# Altium footprint library AVX Corporation.PcbLib: 18 footprints (part 1 of 2)
Each footprint in its own frame and in the unit in brackets; x right, y up, seen from the top. Pads: shape width x height; smd on the part's side, far side on the other; paste and mask are expansions set on the pad; w line width, h text height; cw(c..) or ccw(c..) is an arc to the next point about the centre after c.
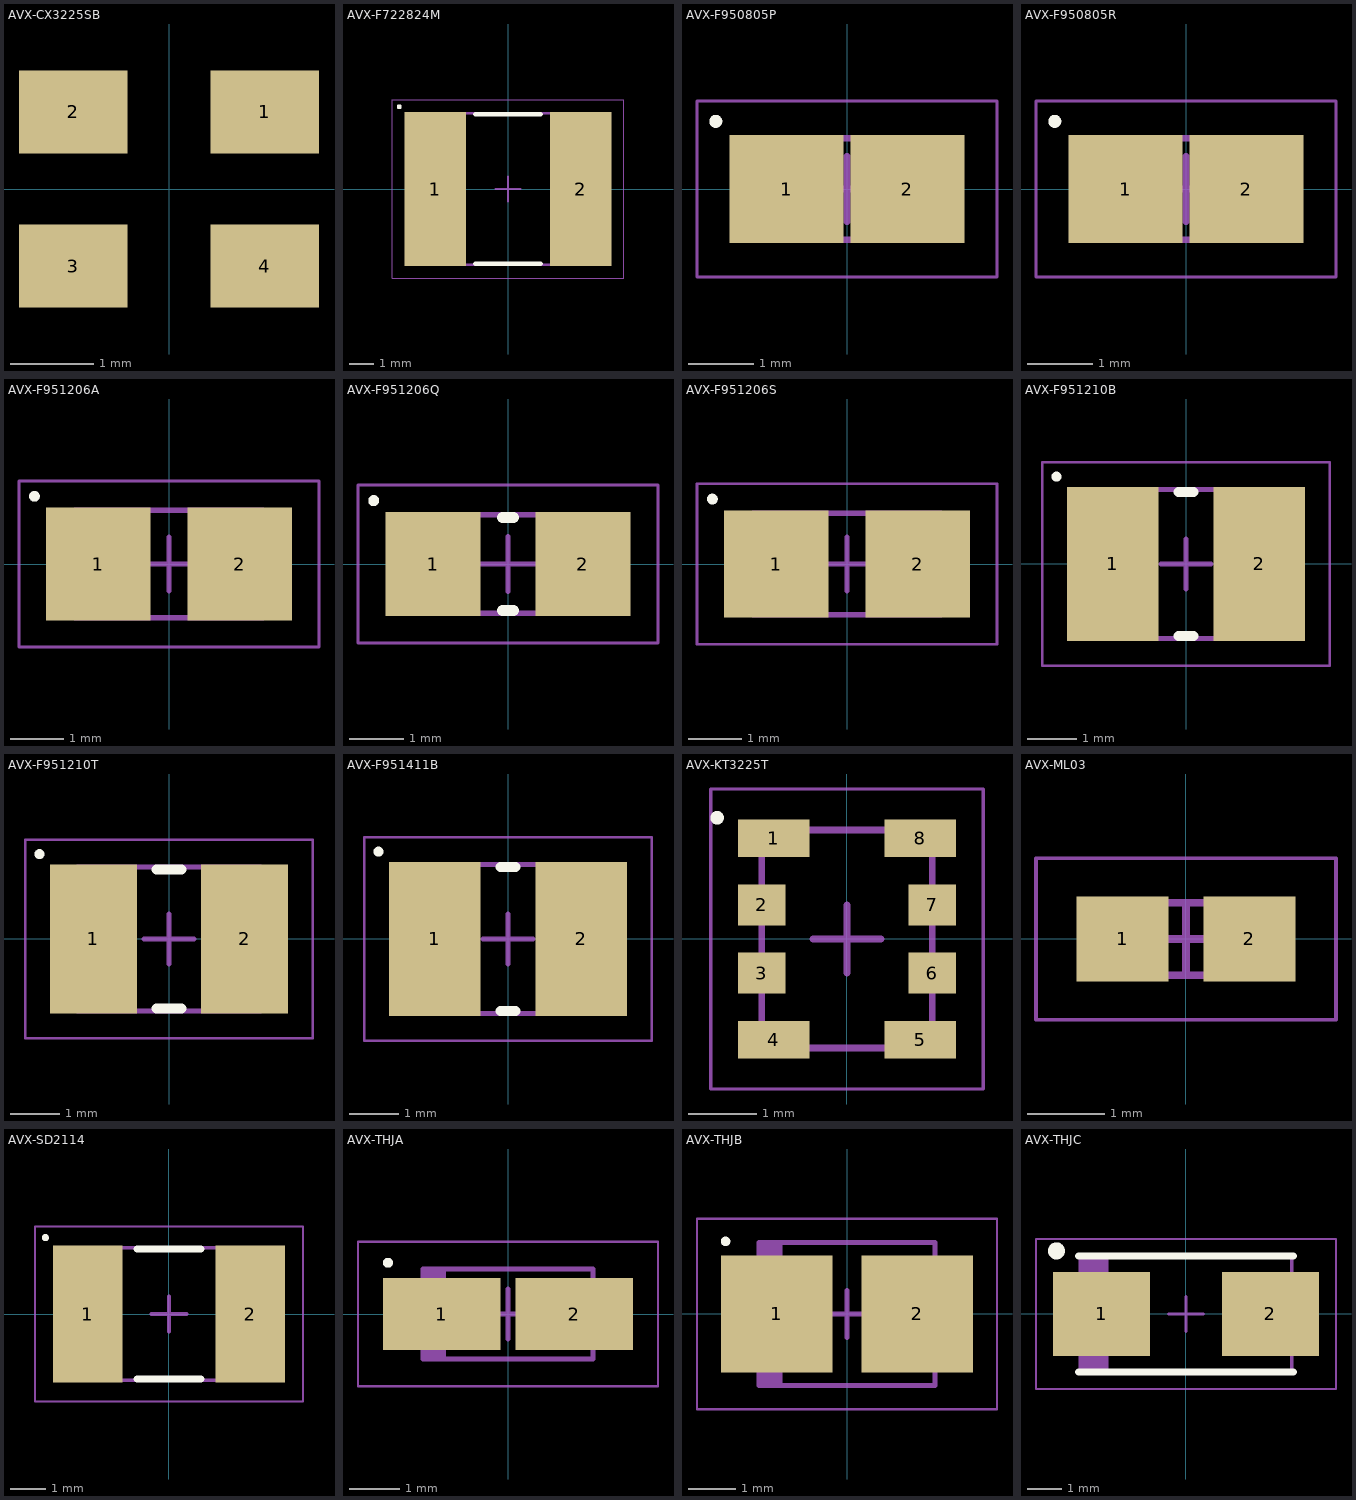
[diagram p0: the footprints below, top view; thin cyan lines are the x and y axes]

## AVX-CX3225SB [mm] "CRYSTAL 48MHZ 8PF SMD"
pads (4):
  rect 1.3x1 smd: 1(1.15,0.925) 2(-1.15,0.925) 3(-1.15,-0.925) 4(1.15,-0.925)
3D body: height 0.55, standoff 0, extent -1.6,-1.25 1.6,1.25

## AVX-F722824M [mm] "Chip Capacitor, 2-Leads, Body 7.20x6.00mm, IPC Low Density"
height 2
pads (2):
  rect 2.55x6.4 smd: 1(-3.025,0) 2(3.025,0)
Top Overlay:
  circle w0.1: c-4.512,3.412 r0.05
  lines w0.2: -1.35,-3.1 1.35,-3.1 ; -1.35,3.1 1.35,3.1
Mechanical 13:
  lines w0.1: -3.75,-3.15 3.75,-3.15 3.75,3.15 -3.75,3.15 -3.75,-3.15
Mechanical 15:
  lines w0.05: -4.8,-3.7 4.8,-3.7 4.8,3.7 -4.8,3.7 -4.8,-3.7
  lines w0.1: -0.5,0 0.5,0 ; 0,-0.5 0,0.5
3D body "AVX-F722824M.step": height 2, standoff 0, extent -3.75,-3.15 3.75,3.15

## AVX-F950805P [mm] "Chip Capacitor, 2-Leads, Body 2.20x1.25mm, IPC Low Density"
height 1.2
pads (2):
  rect 1.75x1.65 smd: 1(-0.925,0) 2(0.925,0)
Top Overlay:
  circle w0.1: c-2.012,1.037 r0.05
Mechanical 13:
  lines w0.1: -1.25,-0.775 1.25,-0.775 1.25,0.775 -1.25,0.775 -1.25,-0.775
Mechanical 15:
  lines w0.05: -2.3,-1.35 2.3,-1.35 2.3,1.35 -2.3,1.35 -2.3,-1.35
  lines w0.1: -0.5,0 0.5,0 ; 0,-0.5 0,0.5
3D body: height 1.2, standoff 0, extent 0.65,-0.775 1.25,0.775
3D body: height 1.2, standoff 0, extent -1.25,-0.775 -0.65,0.775
3D body: height 1.2, standoff 0, extent -0.65,-0.775 0.65,0.775

## AVX-F950805R [mm] "Chip Capacitor, 2-Leads, Body 2.20x1.25mm, IPC Low Density"
height 0.65
pads (2):
  rect 1.75x1.65 smd: 1(-0.925,0) 2(0.925,0)
Top Overlay:
  circle w0.1: c-2.012,1.037 r0.05
Mechanical 13:
  lines w0.1: -1.25,-0.775 1.25,-0.775 1.25,0.775 -1.25,0.775 -1.25,-0.775
Mechanical 15:
  lines w0.05: -2.3,-1.35 2.3,-1.35 2.3,1.35 -2.3,1.35 -2.3,-1.35
  lines w0.1: -0.5,0 0.5,0 ; 0,-0.5 0,0.5
3D body: height 0.65, standoff 0, extent 0.65,-0.775 1.25,0.775
3D body: height 0.65, standoff 0, extent -1.25,-0.775 -0.65,0.775
3D body: height 0.65, standoff 0, extent -0.65,-0.775 0.65,0.775

## AVX-F951206A [mm] "Chip Capacitor, 2-Leads, Body 3.20x1.70mm, IPC Low Density"
height 1.6
pads (2):
  rect 1.95x2.1 smd: 1(-1.325,0) 2(1.325,0)
Top Overlay:
  circle w0.1: c-2.512,1.262 r0.05
Mechanical 13:
  lines w0.1: -1.75,-1 -1.75,1 1.75,1 1.75,-1 -1.75,-1
Mechanical 15:
  lines w0.05: -2.8,-1.55 -2.8,1.55 2.8,1.55 2.8,-1.55 -2.8,-1.55
  lines w0.1: -0.5,0 0.5,0 ; 0,-0.5 0,0.5
3D body: height 1.6, standoff 0, extent -0.95,-1 0.95,1
3D body: height 1.6, standoff 0, extent -1.75,-1 -0.95,1
3D body: height 1.6, standoff 0, extent 0.95,-1 1.75,1

## AVX-F951206Q [mm] "Chip Capacitor, 2-Leads, Body 3.20x1.60mm, IPC Low Density"
height 1
pads (2):
  rect 1.75x1.9 smd: 1(-1.375,0) 2(1.375,0)
Top Overlay:
  circle w0.1: c-2.462,1.162 r0.05
  lines w0.2: -0.1,-0.85 0.1,-0.85 ; -0.1,0.85 0.1,0.85
Mechanical 13:
  lines w0.1: -1.7,-0.9 1.7,-0.9 1.7,0.9 -1.7,0.9 -1.7,-0.9
Mechanical 15:
  lines w0.05: -2.75,-1.45 2.75,-1.45 2.75,1.45 -2.75,1.45 -2.75,-1.45
  lines w0.1: -0.5,0 0.5,0 ; 0,-0.5 0,0.5
3D body: height 1, standoff 0, extent 0.9,-0.9 1.7,0.9
3D body: height 1, standoff 0, extent -1.7,-0.9 -0.9,0.9
3D body: height 1, standoff 0, extent -0.9,-0.9 0.9,0.9

## AVX-F951206S [mm] "Chip Capacitor, 2-Leads, Body 3.20x1.60mm, IPC Low Density"
height 1.2
pads (2):
  rect 1.95x2 smd: 1(-1.325,0) 2(1.325,0)
Top Overlay:
  circle w0.1: c-2.512,1.212 r0.05
Mechanical 13:
  lines w0.1: -1.75,-0.95 -1.75,0.95 1.75,0.95 1.75,-0.95 -1.75,-0.95
Mechanical 15:
  lines w0.05: -2.8,-1.5 -2.8,1.5 2.8,1.5 2.8,-1.5 -2.8,-1.5
  lines w0.1: -0.5,0 0.5,0 ; 0,-0.5 0,0.5
3D body: height 1.2, standoff 0, extent -0.95,-0.95 0.95,0.95
3D body: height 1.2, standoff 0, extent -1.75,-0.95 -0.95,0.95
3D body: height 1.2, standoff 0, extent 0.95,-0.95 1.75,0.95

## AVX-F951210B [mm] "Chip Capacitor, 2-Leads, Body 3.50x2.80mm, IPC Low Density"
height 2
pads (2):
  rect 1.85x3.1 smd: 1(-1.475,0) 2(1.475,0)
Top Overlay:
  circle w0.1: c-2.612,1.762 r0.05
  lines w0.2: -0.15,-1.45 0.15,-1.45 ; -0.15,1.45 0.15,1.45
Mechanical 13:
  lines w0.1: -1.85,-1.5 -1.85,1.5 1.85,1.5 1.85,-1.5 -1.85,-1.5
Mechanical 15:
  lines w0.05: -2.9,-2.05 -2.9,2.05 2.9,2.05 2.9,-2.05 -2.9,-2.05
  lines w0.1: -0.5,0 0.5,0 ; 0,-0.5 0,0.5
3D body: height 2, standoff 0, extent -1.05,-1.5 1.05,1.5
3D body: height 2, standoff 0, extent -1.85,-1.5 -1.05,1.5
3D body: height 2, standoff 0, extent 1.05,-1.5 1.85,1.5

## AVX-F951210T [mm] "Chip Capacitor, 2-Leads, Body 3.50x2.70mm, IPC Low Density"
height 1.2
pads (2):
  rect 1.75x3 smd: 1(-1.525,0) 2(1.525,0)
Top Overlay:
  circle w0.1: c-2.612,1.712 r0.05
  lines w0.2: -0.25,-1.4 0.25,-1.4 ; -0.25,1.4 0.25,1.4
Mechanical 13:
  lines w0.1: -1.85,-1.45 1.85,-1.45 1.85,1.45 -1.85,1.45 -1.85,-1.45
Mechanical 15:
  lines w0.05: -2.9,-2 2.9,-2 2.9,2 -2.9,2 -2.9,-2
  lines w0.1: -0.5,0 0.5,0 ; 0,-0.5 0,0.5
3D body: height 1.2, standoff 0, extent 1.05,-1.45 1.85,1.45
3D body: height 1.2, standoff 0, extent -1.85,-1.45 -1.05,1.45
3D body: height 1.2, standoff 0, extent -1.05,-1.45 1.05,1.45

## AVX-F951411B [mm] "Chip Capacitor, 2-Leads, Body 3.50x2.80mm, IPC Low Density"
height 2
pads (2):
  rect 1.85x3.1 smd: 1(-1.475,0) 2(1.475,0)
Top Overlay:
  circle w0.1: c-2.612,1.762 r0.05
  lines w0.2: -0.15,-1.45 0.15,-1.45 ; -0.15,1.45 0.15,1.45
Mechanical 13:
  lines w0.1: -1.85,-1.5 1.85,-1.5 1.85,1.5 -1.85,1.5 -1.85,-1.5
Mechanical 15:
  lines w0.05: -2.9,-2.05 2.9,-2.05 2.9,2.05 -2.9,2.05 -2.9,-2.05
  lines w0.1: -0.5,0 0.5,0 ; 0,-0.5 0,0.5
3D body: height 2, standoff 0, extent 1.05,-1.5 1.85,1.5
3D body: height 2, standoff 0, extent -1.85,-1.5 -1.05,1.5
3D body: height 2, standoff 0, extent -1.05,-1.5 1.05,1.5

## AVX-KT3225T [mm] "8-SMD, No Lead, 0.126\" L x 0.098\" W x 0.039\" H"
height 1
pads (8):
  rect 1.05x0.55 smd: 1(-1.075,1.475) 4(-1.075,-1.475) 5(1.075,-1.475) 8(1.075,1.475)
  rect 0.7x0.6 smd: 2(-1.25,0.5) 3(-1.25,-0.5) 6(1.25,-0.5) 7(1.25,0.5)
Top Overlay:
  circle w0.1: c-1.905,1.778 r0.05
Mechanical 13:
  lines w0.1: -1.25,-1.6 1.25,-1.6 1.25,1.6 -1.25,1.6 -1.25,-1.6
Mechanical 15:
  lines w0.05: 2,-2.2 2,2.2 ; 2,-2.2 -2,-2.2 -2,2.2 2,2.2 ; 2,-2.2 2,2.2
  lines w0.1: -0.5,0 0.5,0 ; 0,-0.5 0,0.5
3D body: height 1, standoff 0, extent -1.25,-1.6 1.25,1.6

## AVX-ML03 [mm] "Chip Capacitor, 2-Leads, Body 1.60x0.84mm, IPC Low Density"
height 0.74
pads (2):
  rect 1.2x1.1 smd: 1(-0.825,0) 2(0.825,0)
Mechanical 13:
  lines w0.1: -0.85,-0.47 0.85,-0.47 0.85,0.47 -0.85,0.47 -0.85,-0.47
Mechanical 15:
  lines w0.05: -1.95,-1.05 1.95,-1.05 1.95,1.05 -1.95,1.05 -1.95,-1.05
  lines w0.1: -0.47,0 0.47,0 ; 0,-0.47 0,0.47
3D body "CAF-80P160X100-8N.step": height 0.69, standoff 0, extent -0.855,-0.47 0.855,0.47

## AVX-SD2114 [mm] "Chip Diode, 2-Leads, Body 5.20x3.60mm, IPC Low Density"
height 1.2
pads (2):
  rect 1.95x3.85 smd: 1(-2.275,0) 2(2.275,0)
Top Overlay:
  circle w0.1: c-3.462,2.137 r0.05
  lines w0.2: -0.9,-1.825 0.9,-1.825 ; -0.9,1.825 0.9,1.825
Mechanical 2:
  lines w0.1: -2.65,-1.85 2.65,-1.85 2.65,1.85 -2.65,1.85 -2.65,-1.85
Mechanical 4:
  lines w0.05: -3.75,-2.45 3.75,-2.45 3.75,2.45 -3.75,2.45 -3.75,-2.45
  lines w0.1: -0.5,0 0.5,0 ; 0,-0.5 0,0.5
3D body "AVX-SD2114.step": height 1.2, standoff 0, extent -2.65,-1.85 2.65,1.85

## AVX-THJA [mm] "Molded Capacitor, 2-Leads, Body 3.20x1.65mm, IPC Low Density"
height 1.8
pads (2):
  rect 2.35x1.45 smd: 1(-1.325,0) 2(1.325,0)
Top Overlay:
  circle w0.1: c-2.4,1.025 r0.05
Mechanical 13:
  rectangle: -1.7,-0.9 -1.243,0.9
  lines w0.1: -1.7,-0.9 -1.7,0.9 1.7,0.9 1.7,-0.9 -1.7,-0.9
Mechanical 15:
  lines w0.05: -3,-1.45 -3,1.45 3,1.45 3,-1.45 -3,-1.45
  lines w0.1: -0.5,0 0.5,0 ; 0,-0.5 0,0.5
3D body: height 1.8, standoff 0, extent -1.7,-0.9 1.7,0.9

## AVX-THJB [mm] "Molded Capacitor, 2-Leads, Body 3.50x2.85mm, IPC Low Density"
height 2.1
pads (2):
  rect 2.35x2.45 smd: 1(-1.475,0) 2(1.475,0)
Top Overlay:
  circle w0.1: c-2.55,1.525 r0.05
Mechanical 13:
  rectangle: -1.85,-1.5 -1.352,1.5
  lines w0.1: -1.85,-1.5 1.85,-1.5 1.85,1.5 -1.85,1.5 -1.85,-1.5
Mechanical 15:
  lines w0.05: -3.15,-2 3.15,-2 3.15,2 -3.15,2 -3.15,-2
  lines w0.1: -0.5,0 0.5,0 ; 0,-0.5 0,0.5
3D body: height 2.1, standoff 0, extent -1.85,-1.5 1.85,1.5

## AVX-THJC [mm] "Molded Capacitor, 2-Leads, Body 6.00x3.25mm, IPC Low Density"
height 2.8
pads (2):
  rect 2.85x2.45 smd: 1(-2.475,0) 2(2.475,0)
Top Overlay:
  circle w0.25: c-3.8,1.85 r0.125
  lines w0.2: -3.15,-1.7 3.15,-1.7 ; -3.15,1.7 3.15,1.7
Mechanical 13:
  rectangle: -3.1,-1.7 -2.266,1.7
  lines w0.1: -3.1,-1.7 -3.1,1.7 3.1,1.7 3.1,-1.7 -3.1,-1.7
Mechanical 15:
  lines w0.05: -4.4,-2.2 -4.4,2.2 4.4,2.2 4.4,-2.2 -4.4,-2.2
  lines w0.1: -0.5,0 0.5,0 ; 0,-0.5 0,0.5
3D body: height 2.8, standoff 0, extent -3.1,-1.7 3.1,1.7